# Altium schematic symbol library LM317-337元件.SchLib: 2 symbols
Pins are listed as number, name and electrical type; pins without a type are passive.

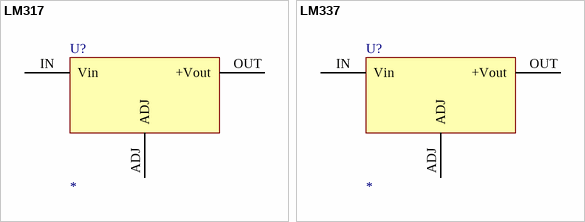
[diagram p0: symbols LM317 to LM337]

## LM317
designator U?
footprint LM317
pins: ADJ, IN Vin, OUT +Vout

## LM337
designator U?
footprint LM337
pins: ADJ, IN Vin, OUT +Vout